# Altium schematic symbol library CRCW060324R0FKEA.SchLib: 1 symbol
Pins are listed as number, name and electrical type; pins without a type are passive.

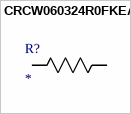
[diagram p0: symbol CRCW060324R0FKEA]

## CRCW060324R0FKEA
designator R?
No Description Available; Mfr_Name: Vishay
footprint RES_CRCW_0603
pins: 1, 2